# EAGLE library part SM08B-GHS-TB(LF)(SN) (library SM08B-GHS-TB_LF__SN_)
GH Series 8 Position 1.25 mm Pitch Side Entry Shrouded Header
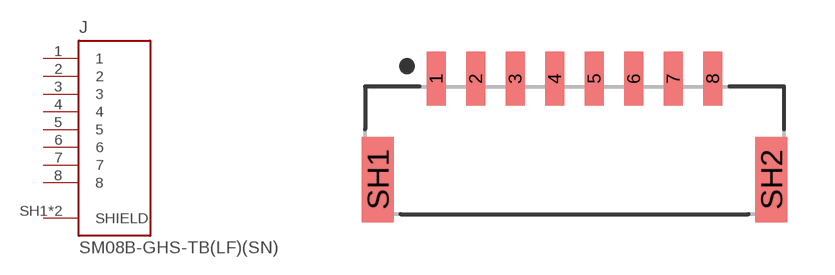
[diagram p0: symbol with the pads of JST_SM08B-GHS-TB(LF)(SN); footprint JST_SM08B-GHS-TB(LF)(SN)]

Designator prefix J

## SM08B-GHS-TB(LF)(SN) (Description: Connector Header Surface Mount, Right Angle 8 position 0.049 (1.25mm); Digi-Key_Part_Number: 455-1570-2-ND; MF: JST Sales; MP: SM08B-GHS-TB(LF)(SN); Package: None; Purchase-URL: https://pricing.snapeda.com/search/part/SM08B-GHS-TB(LF)(SN)/?ref=eda)  [JST_SM08B-GHS-TB(LF)(SN)]
1  1  pas
2  2  pas
3  3  pas
4  4  pas
5  5  pas
6  6  pas
7  7  pas
8  8  pas
SH1  SHIELD  pas
SH2  SHIELD  pas

## Footprint JST_SM08B-GHS-TB(LF)(SN) (pad centres in mm)
smd 0.6 x 1.7: 1 -4.375,0; 2 -3.125,0; 3 -1.875,0; 4 -0.625,0; 5 0.625,0; 6 1.875,0; 7 3.125,0; 8 4.375,0
smd 1 x 2.7: SH1 -6.225,-3.2; SH2 6.225,-3.2